# Altium integrated library Analog Devices Temperature Sensors.IntLib: 271 symbols (part 4 of 14)
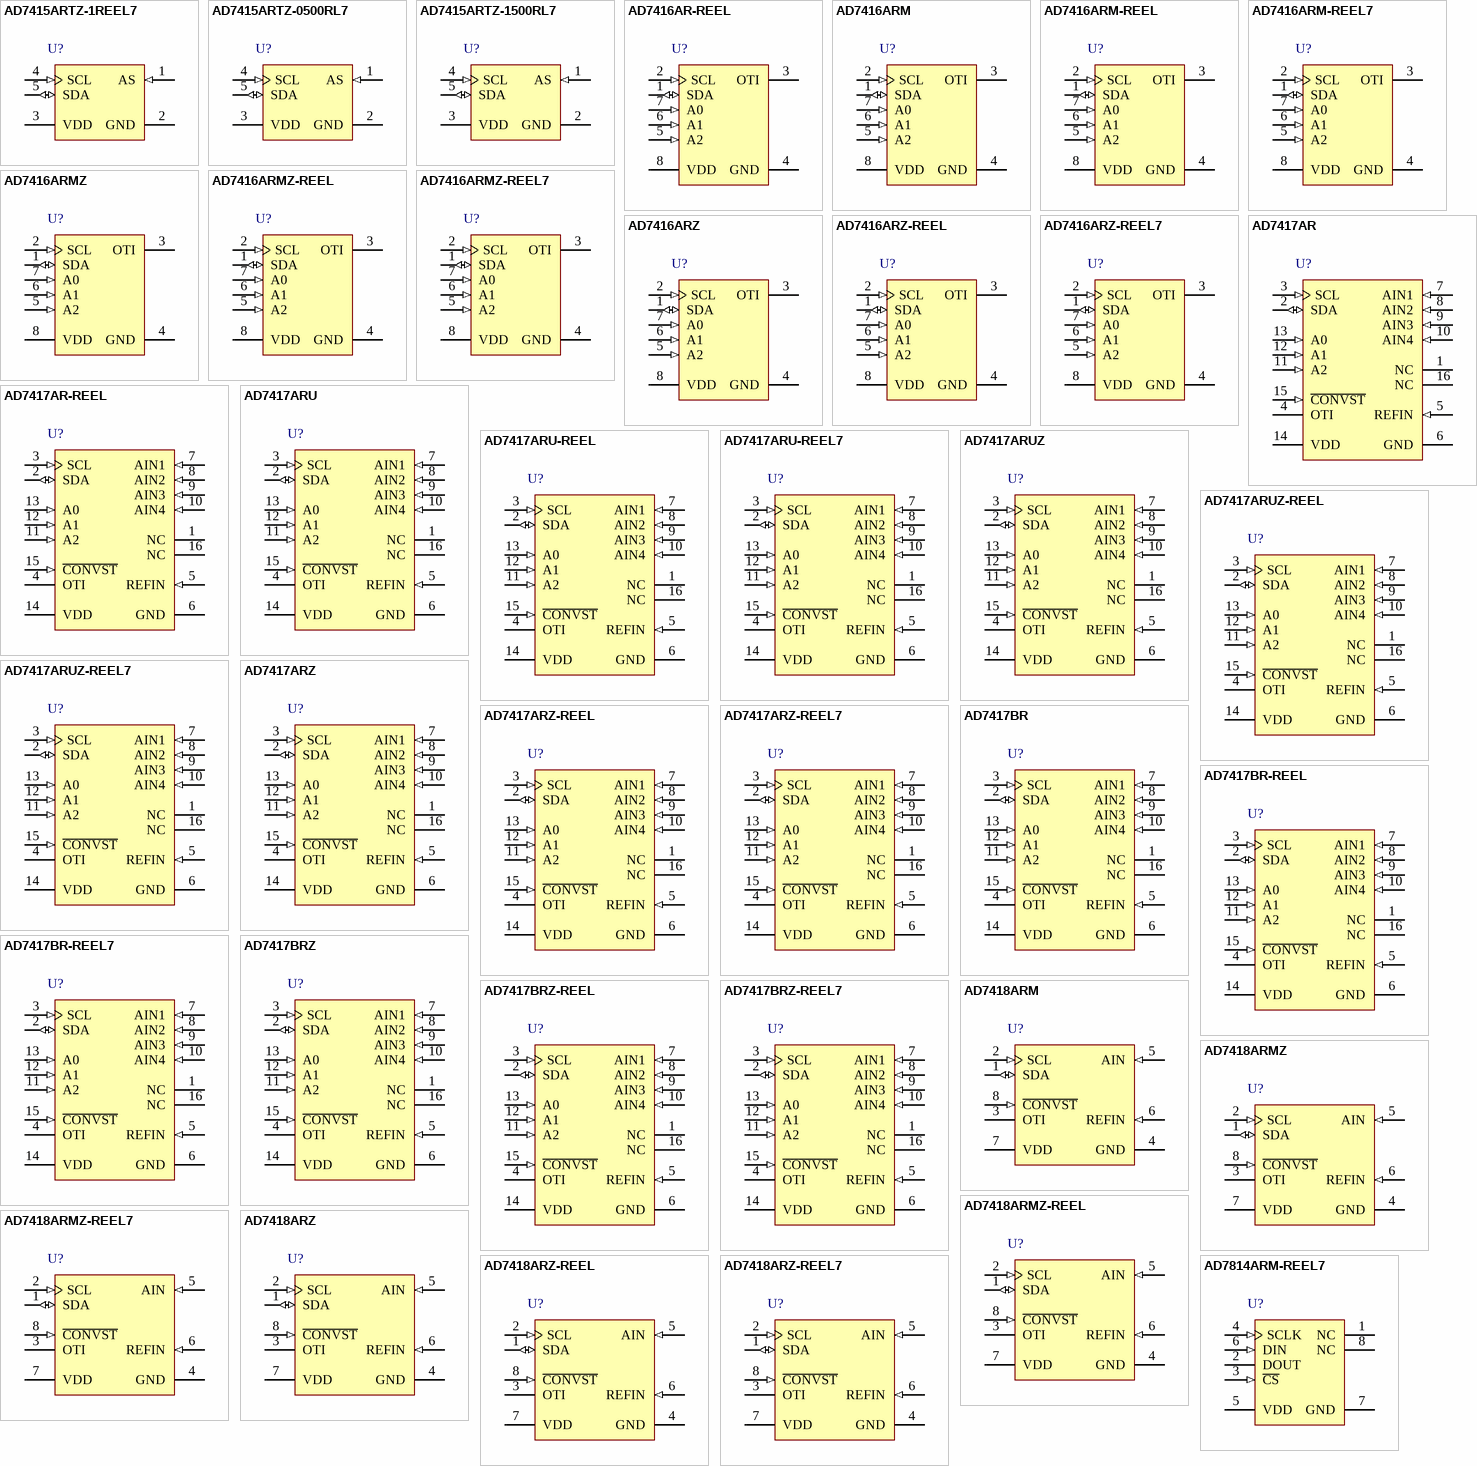
[diagram p10: symbols AD7415ARTZ-1REEL7 to AD7814ARM-REEL7]

## AD7417ARZ-REEL7
designator U?
10-Bit Digital Temperature Sensor and Four Single-Channel ADCs, 2.7 to 5.5 V Supply, Industrial, 16-pin SOIC (R-16), Reel; Manufacturer: Analog Devices; PartNumber: AD7417ARZ-REEL7; #_ADC_channels: 4; DatasheetVersion: Rev. I; PackageVersion: 060606-A, 06/2006; PackageReference: R-16; PackageDescription: 16-Pin Standard Small Outline Package, Body 9.9 x 3.9 mm, Pitch 1.27 mm; Supplier 1: Digi-Key; Supplier Part Number 1: AD7417ARZ-REEL7TR-ND; Supplier 2: Digi-Key; Supplier Part Number 2: AD7417ARZ-REEL7CT-ND; Supplier 3: Digi-Key; Supplier Part Number 3: AD7417ARZ-REEL7DKR-ND; Supplier 4: Newark; Supplier Part Number 4: 12M8812; Supplier 5: Mouser; Supplier Part Number 5: 584-AD7417ARZ-R7; Packing: Reel; Supply Voltage Range: 2.7 to 5.5 V; Mounting Technology: Surface Mount; Code_JEDEC: MS-012-AC; ComponentLink1Description: Manufacturer URL; ComponentLink1URL: http://www.analog.com/en/index.html; ComponentLink2Description: Datasheet; ComponentLink2URL: http://www.analog.com/static/imported-files/data_sheets/AD7416_7417_7418.pdf; ComponentLink3Description: Package Specification; ComponentLink3URL: http://www.analog.com/static/imported-files/packages/PKG_PDF/SOIC_Narrow%20(R)/R_16.pdf; ComponentLink4Description: Product URL; ComponentLink4URL: http://www.analog.com/en/mems-sensors/digital-temperature-sensors/ad7417/products/product.html
footprint ADI-R-16_N (SOIC, 16-Leads, Body 9.9x3.9mm, Pitch 1.27mm, IPC Medium Density)
footprint ADI-R-16_L (SOIC, 16-Leads, Body 9.9x3.9mm, Pitch 1.27mm, IPC High Density)
footprint ADI-R-16_M (SOIC, 16-Leads, Body 9.9x3.9mm, Pitch 1.27mm, IPC Low Density)
pins: 1 NC "No Connection. Do not connect anything to this pin.", 2 SDA (io) "Digital I/O. Serial bus bidirectional data. Push-pull output.", 3 SCL (in) "Digital Input. Serial bus clock.", 4 OTI (oc) "This pin is a logic output. The overtemperature indicator (OTI) is set if the result of a conversion on Channel 0 (temperature sensor) is greater than an 8-bit word in the TOTI setpoint register. The signal is reset at the (See Datasheet)", 5 REFIN (in) "Reference Input. An external 2.5 V reference can be connected to the AD7417 at this pin. To enable the on-chip reference, the REFIN pin should be tied to GND. If an external reference is connected to the AD7417, the internal (See Datasheet)", 6 GND (power) "Ground reference for track-and-hold, comparator and capacitor DAC, and digital circuitry.", 7 AIN1 (in) "Analog Input Channels. The AD7417 has four analog input channels. The input channels are single-ended with respect to GND. The input channels can convert voltage signals in the range of 0 V to VREF. A channel is selected by (See Datasheet)", 8 AIN2 (in) "Analog Input Channels. The AD7417 has four analog input channels. The input channels are single-ended with respect to GND. The input channels can convert voltage signals in the range of 0 V to VREF. A channel is selected by (See Datasheet)", 9 AIN3 (in) "Analog Input Channels. The AD7417 has four analog input channels. The input channels are single-ended with respect to GND. The input channels can convert voltage signals in the range of 0 V to VREF. A channel is selected by (See Datasheet)", 10 AIN4 (in) "Analog Input Channels. The AD7417 has four analog input channels. The input channels are single-ended with respect to GND. The input channels can convert voltage signals in the range of 0 V to VREF. A channel is selected by (See Datasheet)", 11 A2 (in) "Digital Input. This is the highest programmable bit of the serial bus address.", 12 A1 (in) "Digital Input. This is the middle programmable bit of the serial bus address.", 13 A0 (in) "Digital Input. This is the lowest programmable bit of the serial bus address.", 14 VDD (power) "Positive Supply Voltage, 2.7 V to 5.5 V.", 15 ~{CONVST} (in) "Logic Input Signal. Convert start signal. The rising edge of this signal fully powers up the part. The power-up time for the part is 4 µs. If the C\O\N\V\S\T\ pulse is greater than 4 µs, the falling edge of C\O\N\V\S\T\ (See Datasheet)", 16 NC "No Connection. Do not connect anything to this pin."

## AD7417BR
designator U?
10-Bit Digital Temperature Sensor and Four Single-Channel ADCs, 2.7 to 5.5 V Supply, Industrial, 16-pin SOIC (R-16), Tube; Manufacturer: Analog Devices; PartNumber: AD7417BR; #_ADC_channels: 4; DatasheetVersion: Rev. I; PackageVersion: 060606-A, 06/2006; PackageReference: R-16; PackageDescription: 16-Pin Standard Small Outline Package, Body 9.9 x 3.9 mm, Pitch 1.27 mm; Supplier 1: Digi-Key; Supplier Part Number 1: AD7417BR-ND; Supplier 2: Mouser; Supplier Part Number 2: 584-AD7417BR; Packing: Tube; Supply Voltage Range: 2.7 to 5.5 V; Mounting Technology: Surface Mount; Code_JEDEC: MS-012-AC; ComponentLink1Description: Manufacturer URL; ComponentLink1URL: http://www.analog.com/en/index.html; ComponentLink2Description: Datasheet; ComponentLink2URL: http://www.analog.com/static/imported-files/data_sheets/AD7416_7417_7418.pdf; ComponentLink3Description: Package Specification; ComponentLink3URL: http://www.analog.com/static/imported-files/packages/PKG_PDF/SOIC_Narrow%20(R)/R_16.pdf; ComponentLink4Description: Product URL; ComponentLink4URL: http://www.analog.com/en/mems-sensors/digital-temperature-sensors/ad7417/products/product.html
footprint ADI-R-16_N (SOIC, 16-Leads, Body 9.9x3.9mm, Pitch 1.27mm, IPC Medium Density)
footprint ADI-R-16_L (SOIC, 16-Leads, Body 9.9x3.9mm, Pitch 1.27mm, IPC High Density)
footprint ADI-R-16_M (SOIC, 16-Leads, Body 9.9x3.9mm, Pitch 1.27mm, IPC Low Density)
pins: 1 NC "No Connection. Do not connect anything to this pin.", 2 SDA (io) "Digital I/O. Serial bus bidirectional data. Push-pull output.", 3 SCL (in) "Digital Input. Serial bus clock.", 4 OTI (oc) "This pin is a logic output. The overtemperature indicator (OTI) is set if the result of a conversion on Channel 0 (temperature sensor) is greater than an 8-bit word in the TOTI setpoint register. The signal is reset at the (See Datasheet)", 5 REFIN (in) "Reference Input. An external 2.5 V reference can be connected to the AD7417 at this pin. To enable the on-chip reference, the REFIN pin should be tied to GND. If an external reference is connected to the AD7417, the internal (See Datasheet)", 6 GND (power) "Ground reference for track-and-hold, comparator and capacitor DAC, and digital circuitry.", 7 AIN1 (in) "Analog Input Channels. The AD7417 has four analog input channels. The input channels are single-ended with respect to GND. The input channels can convert voltage signals in the range of 0 V to VREF. A channel is selected by (See Datasheet)", 8 AIN2 (in) "Analog Input Channels. The AD7417 has four analog input channels. The input channels are single-ended with respect to GND. The input channels can convert voltage signals in the range of 0 V to VREF. A channel is selected by (See Datasheet)", 9 AIN3 (in) "Analog Input Channels. The AD7417 has four analog input channels. The input channels are single-ended with respect to GND. The input channels can convert voltage signals in the range of 0 V to VREF. A channel is selected by (See Datasheet)", 10 AIN4 (in) "Analog Input Channels. The AD7417 has four analog input channels. The input channels are single-ended with respect to GND. The input channels can convert voltage signals in the range of 0 V to VREF. A channel is selected by (See Datasheet)", 11 A2 (in) "Digital Input. This is the highest programmable bit of the serial bus address.", 12 A1 (in) "Digital Input. This is the middle programmable bit of the serial bus address.", 13 A0 (in) "Digital Input. This is the lowest programmable bit of the serial bus address.", 14 VDD (power) "Positive Supply Voltage, 2.7 V to 5.5 V.", 15 ~{CONVST} (in) "Logic Input Signal. Convert start signal. The rising edge of this signal fully powers up the part. The power-up time for the part is 4 µs. If the C\O\N\V\S\T\ pulse is greater than 4 µs, the falling edge of C\O\N\V\S\T\ (See Datasheet)", 16 NC "No Connection. Do not connect anything to this pin."

## AD7417BR-REEL
designator U?
10-Bit Digital Temperature Sensor and Four Single-Channel ADCs, 2.7 to 5.5 V Supply, Industrial, 16-pin SOIC (R-16), Reel; Manufacturer: Analog Devices; PartNumber: AD7417BR-REEL; #_ADC_channels: 4; DatasheetVersion: Rev. I; PackageVersion: 060606-A, 06/2006; PackageReference: R-16; PackageDescription: 16-Pin Standard Small Outline Package, Body 9.9 x 3.9 mm, Pitch 1.27 mm; Supplier 1: Digi-Key; Supplier Part Number 1: AD7417BR-REEL-ND; Supplier 2: Mouser; Supplier Part Number 2: 584-AD7417BR-R; Packing: Reel; Supply Voltage Range: 2.7 to 5.5 V; Mounting Technology: Surface Mount; Code_JEDEC: MS-012-AC; ComponentLink1Description: Manufacturer URL; ComponentLink1URL: http://www.analog.com/en/index.html; ComponentLink2Description: Datasheet; ComponentLink2URL: http://www.analog.com/static/imported-files/data_sheets/AD7416_7417_7418.pdf; ComponentLink3Description: Package Specification; ComponentLink3URL: http://www.analog.com/static/imported-files/packages/PKG_PDF/SOIC_Narrow%20(R)/R_16.pdf; ComponentLink4Description: Product URL; ComponentLink4URL: http://www.analog.com/en/mems-sensors/digital-temperature-sensors/ad7417/products/product.html
footprint ADI-R-16_N (SOIC, 16-Leads, Body 9.9x3.9mm, Pitch 1.27mm, IPC Medium Density)
footprint ADI-R-16_L (SOIC, 16-Leads, Body 9.9x3.9mm, Pitch 1.27mm, IPC High Density)
footprint ADI-R-16_M (SOIC, 16-Leads, Body 9.9x3.9mm, Pitch 1.27mm, IPC Low Density)
pins: 1 NC "No Connection. Do not connect anything to this pin.", 2 SDA (io) "Digital I/O. Serial bus bidirectional data. Push-pull output.", 3 SCL (in) "Digital Input. Serial bus clock.", 4 OTI (oc) "This pin is a logic output. The overtemperature indicator (OTI) is set if the result of a conversion on Channel 0 (temperature sensor) is greater than an 8-bit word in the TOTI setpoint register. The signal is reset at the (See Datasheet)", 5 REFIN (in) "Reference Input. An external 2.5 V reference can be connected to the AD7417 at this pin. To enable the on-chip reference, the REFIN pin should be tied to GND. If an external reference is connected to the AD7417, the internal (See Datasheet)", 6 GND (power) "Ground reference for track-and-hold, comparator and capacitor DAC, and digital circuitry.", 7 AIN1 (in) "Analog Input Channels. The AD7417 has four analog input channels. The input channels are single-ended with respect to GND. The input channels can convert voltage signals in the range of 0 V to VREF. A channel is selected by (See Datasheet)", 8 AIN2 (in) "Analog Input Channels. The AD7417 has four analog input channels. The input channels are single-ended with respect to GND. The input channels can convert voltage signals in the range of 0 V to VREF. A channel is selected by (See Datasheet)", 9 AIN3 (in) "Analog Input Channels. The AD7417 has four analog input channels. The input channels are single-ended with respect to GND. The input channels can convert voltage signals in the range of 0 V to VREF. A channel is selected by (See Datasheet)", 10 AIN4 (in) "Analog Input Channels. The AD7417 has four analog input channels. The input channels are single-ended with respect to GND. The input channels can convert voltage signals in the range of 0 V to VREF. A channel is selected by (See Datasheet)", 11 A2 (in) "Digital Input. This is the highest programmable bit of the serial bus address.", 12 A1 (in) "Digital Input. This is the middle programmable bit of the serial bus address.", 13 A0 (in) "Digital Input. This is the lowest programmable bit of the serial bus address.", 14 VDD (power) "Positive Supply Voltage, 2.7 V to 5.5 V.", 15 ~{CONVST} (in) "Logic Input Signal. Convert start signal. The rising edge of this signal fully powers up the part. The power-up time for the part is 4 µs. If the C\O\N\V\S\T\ pulse is greater than 4 µs, the falling edge of C\O\N\V\S\T\ (See Datasheet)", 16 NC "No Connection. Do not connect anything to this pin."

## AD7417BR-REEL7
designator U?
10-Bit Digital Temperature Sensor and Four Single-Channel ADCs, 2.7 to 5.5 V Supply, Industrial, 16-pin SOIC (R-16), Reel; Manufacturer: Analog Devices; PartNumber: AD7417BR-REEL7; #_ADC_channels: 4; DatasheetVersion: Rev. I; PackageVersion: 060606-A, 06/2006; PackageReference: R-16; PackageDescription: 16-Pin Standard Small Outline Package, Body 9.9 x 3.9 mm, Pitch 1.27 mm; Supplier 1: Digi-Key; Supplier Part Number 1: AD7417BR-REEL7-ND; Supplier 2: Mouser; Supplier Part Number 2: 584-AD7417BR-R7; Packing: Reel; Supply Voltage Range: 2.7 to 5.5 V; Mounting Technology: Surface Mount; Code_JEDEC: MS-012-AC; ComponentLink1Description: Manufacturer URL; ComponentLink1URL: http://www.analog.com/en/index.html; ComponentLink2Description: Datasheet; ComponentLink2URL: http://www.analog.com/static/imported-files/data_sheets/AD7416_7417_7418.pdf; ComponentLink3Description: Package Specification; ComponentLink3URL: http://www.analog.com/static/imported-files/packages/PKG_PDF/SOIC_Narrow%20(R)/R_16.pdf; ComponentLink4Description: Product URL; ComponentLink4URL: http://www.analog.com/en/mems-sensors/digital-temperature-sensors/ad7417/products/product.html
footprint ADI-R-16_N (SOIC, 16-Leads, Body 9.9x3.9mm, Pitch 1.27mm, IPC Medium Density)
footprint ADI-R-16_L (SOIC, 16-Leads, Body 9.9x3.9mm, Pitch 1.27mm, IPC High Density)
footprint ADI-R-16_M (SOIC, 16-Leads, Body 9.9x3.9mm, Pitch 1.27mm, IPC Low Density)
pins: 1 NC "No Connection. Do not connect anything to this pin.", 2 SDA (io) "Digital I/O. Serial bus bidirectional data. Push-pull output.", 3 SCL (in) "Digital Input. Serial bus clock.", 4 OTI (oc) "This pin is a logic output. The overtemperature indicator (OTI) is set if the result of a conversion on Channel 0 (temperature sensor) is greater than an 8-bit word in the TOTI setpoint register. The signal is reset at the (See Datasheet)", 5 REFIN (in) "Reference Input. An external 2.5 V reference can be connected to the AD7417 at this pin. To enable the on-chip reference, the REFIN pin should be tied to GND. If an external reference is connected to the AD7417, the internal (See Datasheet)", 6 GND (power) "Ground reference for track-and-hold, comparator and capacitor DAC, and digital circuitry.", 7 AIN1 (in) "Analog Input Channels. The AD7417 has four analog input channels. The input channels are single-ended with respect to GND. The input channels can convert voltage signals in the range of 0 V to VREF. A channel is selected by (See Datasheet)", 8 AIN2 (in) "Analog Input Channels. The AD7417 has four analog input channels. The input channels are single-ended with respect to GND. The input channels can convert voltage signals in the range of 0 V to VREF. A channel is selected by (See Datasheet)", 9 AIN3 (in) "Analog Input Channels. The AD7417 has four analog input channels. The input channels are single-ended with respect to GND. The input channels can convert voltage signals in the range of 0 V to VREF. A channel is selected by (See Datasheet)", 10 AIN4 (in) "Analog Input Channels. The AD7417 has four analog input channels. The input channels are single-ended with respect to GND. The input channels can convert voltage signals in the range of 0 V to VREF. A channel is selected by (See Datasheet)", 11 A2 (in) "Digital Input. This is the highest programmable bit of the serial bus address.", 12 A1 (in) "Digital Input. This is the middle programmable bit of the serial bus address.", 13 A0 (in) "Digital Input. This is the lowest programmable bit of the serial bus address.", 14 VDD (power) "Positive Supply Voltage, 2.7 V to 5.5 V.", 15 ~{CONVST} (in) "Logic Input Signal. Convert start signal. The rising edge of this signal fully powers up the part. The power-up time for the part is 4 µs. If the C\O\N\V\S\T\ pulse is greater than 4 µs, the falling edge of C\O\N\V\S\T\ (See Datasheet)", 16 NC "No Connection. Do not connect anything to this pin."

## AD7417BRZ
designator U?
10-Bit Digital Temperature Sensor and Four Single-Channel ADCs, 2.7 to 5.5 V Supply, Industrial, 16-pin SOIC (R-16), Tube; Manufacturer: Analog Devices; PartNumber: AD7417BRZ; #_ADC_channels: 4; DatasheetVersion: Rev. I; PackageVersion: 060606-A, 06/2006; PackageReference: R-16; PackageDescription: 16-Pin Standard Small Outline Package, Body 9.9 x 3.9 mm, Pitch 1.27 mm; Supplier 1: Digi-Key; Supplier Part Number 1: AD7417BRZ-ND; Supplier 2: Farnell; Supplier Part Number 2: 2376956; Supplier 3: Newark; Supplier Part Number 3: 23X6195; Supplier 4: Mouser; Supplier Part Number 4: 584-AD7417BRZ; Packing: Tube; Supply Voltage Range: 2.7 to 5.5 V; Mounting Technology: Surface Mount; Code_JEDEC: MS-012-AC; ComponentLink1Description: Manufacturer URL; ComponentLink1URL: http://www.analog.com/en/index.html; ComponentLink2Description: Datasheet; ComponentLink2URL: http://www.analog.com/static/imported-files/data_sheets/AD7416_7417_7418.pdf; ComponentLink3Description: Package Specification; ComponentLink3URL: http://www.analog.com/static/imported-files/packages/PKG_PDF/SOIC_Narrow%20(R)/R_16.pdf; ComponentLink4Description: Product URL; ComponentLink4URL: http://www.analog.com/en/mems-sensors/digital-temperature-sensors/ad7417/products/product.html
footprint ADI-R-16_N (SOIC, 16-Leads, Body 9.9x3.9mm, Pitch 1.27mm, IPC Medium Density)
footprint ADI-R-16_L (SOIC, 16-Leads, Body 9.9x3.9mm, Pitch 1.27mm, IPC High Density)
footprint ADI-R-16_M (SOIC, 16-Leads, Body 9.9x3.9mm, Pitch 1.27mm, IPC Low Density)
pins: 1 NC "No Connection. Do not connect anything to this pin.", 2 SDA (io) "Digital I/O. Serial bus bidirectional data. Push-pull output.", 3 SCL (in) "Digital Input. Serial bus clock.", 4 OTI (oc) "This pin is a logic output. The overtemperature indicator (OTI) is set if the result of a conversion on Channel 0 (temperature sensor) is greater than an 8-bit word in the TOTI setpoint register. The signal is reset at the (See Datasheet)", 5 REFIN (in) "Reference Input. An external 2.5 V reference can be connected to the AD7417 at this pin. To enable the on-chip reference, the REFIN pin should be tied to GND. If an external reference is connected to the AD7417, the internal (See Datasheet)", 6 GND (power) "Ground reference for track-and-hold, comparator and capacitor DAC, and digital circuitry.", 7 AIN1 (in) "Analog Input Channels. The AD7417 has four analog input channels. The input channels are single-ended with respect to GND. The input channels can convert voltage signals in the range of 0 V to VREF. A channel is selected by (See Datasheet)", 8 AIN2 (in) "Analog Input Channels. The AD7417 has four analog input channels. The input channels are single-ended with respect to GND. The input channels can convert voltage signals in the range of 0 V to VREF. A channel is selected by (See Datasheet)", 9 AIN3 (in) "Analog Input Channels. The AD7417 has four analog input channels. The input channels are single-ended with respect to GND. The input channels can convert voltage signals in the range of 0 V to VREF. A channel is selected by (See Datasheet)", 10 AIN4 (in) "Analog Input Channels. The AD7417 has four analog input channels. The input channels are single-ended with respect to GND. The input channels can convert voltage signals in the range of 0 V to VREF. A channel is selected by (See Datasheet)", 11 A2 (in) "Digital Input. This is the highest programmable bit of the serial bus address.", 12 A1 (in) "Digital Input. This is the middle programmable bit of the serial bus address.", 13 A0 (in) "Digital Input. This is the lowest programmable bit of the serial bus address.", 14 VDD (power) "Positive Supply Voltage, 2.7 V to 5.5 V.", 15 ~{CONVST} (in) "Logic Input Signal. Convert start signal. The rising edge of this signal fully powers up the part. The power-up time for the part is 4 µs. If the C\O\N\V\S\T\ pulse is greater than 4 µs, the falling edge of C\O\N\V\S\T\ (See Datasheet)", 16 NC "No Connection. Do not connect anything to this pin."

## AD7417BRZ-REEL
designator U?
10-Bit Digital Temperature Sensor and Four Single-Channel ADCs, 2.7 to 5.5 V Supply, Industrial, 16-pin SOIC (R-16), Reel; Manufacturer: Analog Devices; PartNumber: AD7417BRZ-REEL; #_ADC_channels: 4; DatasheetVersion: Rev. I; PackageVersion: 060606-A, 06/2006; PackageReference: R-16; PackageDescription: 16-Pin Standard Small Outline Package, Body 9.9 x 3.9 mm, Pitch 1.27 mm; Supplier 1: Digi-Key; Supplier Part Number 1: AD7417BRZ-REEL-ND; Supplier 2: Mouser; Supplier Part Number 2: 584-AD7417BRZ-R; Packing: Reel; Supply Voltage Range: 2.7 to 5.5 V; Mounting Technology: Surface Mount; Code_JEDEC: MS-012-AC; ComponentLink1Description: Manufacturer URL; ComponentLink1URL: http://www.analog.com/en/index.html; ComponentLink2Description: Datasheet; ComponentLink2URL: http://www.analog.com/static/imported-files/data_sheets/AD7416_7417_7418.pdf; ComponentLink3Description: Package Specification; ComponentLink3URL: http://www.analog.com/static/imported-files/packages/PKG_PDF/SOIC_Narrow%20(R)/R_16.pdf; ComponentLink4Description: Product URL; ComponentLink4URL: http://www.analog.com/en/mems-sensors/digital-temperature-sensors/ad7417/products/product.html
footprint ADI-R-16_N (SOIC, 16-Leads, Body 9.9x3.9mm, Pitch 1.27mm, IPC Medium Density)
footprint ADI-R-16_L (SOIC, 16-Leads, Body 9.9x3.9mm, Pitch 1.27mm, IPC High Density)
footprint ADI-R-16_M (SOIC, 16-Leads, Body 9.9x3.9mm, Pitch 1.27mm, IPC Low Density)
pins: 1 NC "No Connection. Do not connect anything to this pin.", 2 SDA (io) "Digital I/O. Serial bus bidirectional data. Push-pull output.", 3 SCL (in) "Digital Input. Serial bus clock.", 4 OTI (oc) "This pin is a logic output. The overtemperature indicator (OTI) is set if the result of a conversion on Channel 0 (temperature sensor) is greater than an 8-bit word in the TOTI setpoint register. The signal is reset at the (See Datasheet)", 5 REFIN (in) "Reference Input. An external 2.5 V reference can be connected to the AD7417 at this pin. To enable the on-chip reference, the REFIN pin should be tied to GND. If an external reference is connected to the AD7417, the internal (See Datasheet)", 6 GND (power) "Ground reference for track-and-hold, comparator and capacitor DAC, and digital circuitry.", 7 AIN1 (in) "Analog Input Channels. The AD7417 has four analog input channels. The input channels are single-ended with respect to GND. The input channels can convert voltage signals in the range of 0 V to VREF. A channel is selected by (See Datasheet)", 8 AIN2 (in) "Analog Input Channels. The AD7417 has four analog input channels. The input channels are single-ended with respect to GND. The input channels can convert voltage signals in the range of 0 V to VREF. A channel is selected by (See Datasheet)", 9 AIN3 (in) "Analog Input Channels. The AD7417 has four analog input channels. The input channels are single-ended with respect to GND. The input channels can convert voltage signals in the range of 0 V to VREF. A channel is selected by (See Datasheet)", 10 AIN4 (in) "Analog Input Channels. The AD7417 has four analog input channels. The input channels are single-ended with respect to GND. The input channels can convert voltage signals in the range of 0 V to VREF. A channel is selected by (See Datasheet)", 11 A2 (in) "Digital Input. This is the highest programmable bit of the serial bus address.", 12 A1 (in) "Digital Input. This is the middle programmable bit of the serial bus address.", 13 A0 (in) "Digital Input. This is the lowest programmable bit of the serial bus address.", 14 VDD (power) "Positive Supply Voltage, 2.7 V to 5.5 V.", 15 ~{CONVST} (in) "Logic Input Signal. Convert start signal. The rising edge of this signal fully powers up the part. The power-up time for the part is 4 µs. If the C\O\N\V\S\T\ pulse is greater than 4 µs, the falling edge of C\O\N\V\S\T\ (See Datasheet)", 16 NC "No Connection. Do not connect anything to this pin."

## AD7417BRZ-REEL7
designator U?
10-Bit Digital Temperature Sensor and Four Channel ADCs, 2.7 to 5.5 V Supply, Industrial, 16-pin SOIC (R-16), Reel; Manufacturer: Analog Devices; PartNumber: AD7417BRZ-REEL7; #_ADC_channels: 4; DatasheetVersion: Rev. I; PackageVersion: 060606-A, 06/2006; PackageReference: R-16; PackageDescription: 16-Pin Standard Small Outline Package, Body 9.9 x 3.9 mm, Pitch 1.27 mm; Supplier 1: Digi-Key; Supplier Part Number 1: AD7417BRZ-REEL7-ND; Supplier 2: Mouser; Supplier Part Number 2: 584-AD7417BRZ-R7; Packing: Reel; Supply Voltage Range: 2.7 to 5.5 V; Mounting Technology: Surface Mount; Code_JEDEC: MS-012-AC; ComponentLink1Description: Manufacturer URL; ComponentLink1URL: http://www.analog.com/en/index.html; ComponentLink2Description: Datasheet; ComponentLink2URL: http://www.analog.com/static/imported-files/data_sheets/AD7416_7417_7418.pdf; ComponentLink3Description: Package Specification; ComponentLink3URL: http://www.analog.com/static/imported-files/packages/PKG_PDF/SOIC_Narrow%20(R)/R_16.pdf; ComponentLink4Description: Product URL; ComponentLink4URL: http://www.analog.com/en/mems-sensors/digital-temperature-sensors/ad7417/products/product.html
footprint ADI-R-16_N (SOIC, 16-Leads, Body 9.9x3.9mm, Pitch 1.27mm, IPC Medium Density)
footprint ADI-R-16_L (SOIC, 16-Leads, Body 9.9x3.9mm, Pitch 1.27mm, IPC High Density)
footprint ADI-R-16_M (SOIC, 16-Leads, Body 9.9x3.9mm, Pitch 1.27mm, IPC Low Density)
pins: 1 NC "No Connection. Do not connect anything to this pin.", 2 SDA (io) "Digital I/O. Serial bus bidirectional data. Push-pull output.", 3 SCL (in) "Digital Input. Serial bus clock.", 4 OTI (oc) "This pin is a logic output. The overtemperature indicator (OTI) is set if the result of a conversion on Channel 0 (temperature sensor) is greater than an 8-bit word in the TOTI setpoint register. The signal is reset at the (See Datasheet)", 5 REFIN (in) "Reference Input. An external 2.5 V reference can be connected to the AD7417 at this pin. To enable the on-chip reference, the REFIN pin should be tied to GND. If an external reference is connected to the AD7417, the internal (See Datasheet)", 6 GND (power) "Ground reference for track-and-hold, comparator and capacitor DAC, and digital circuitry.", 7 AIN1 (in) "Analog Input Channels. The AD7417 has four analog input channels. The input channels are single-ended with respect to GND. The input channels can convert voltage signals in the range of 0 V to VREF. A channel is selected by (See Datasheet)", 8 AIN2 (in) "Analog Input Channels. The AD7417 has four analog input channels. The input channels are single-ended with respect to GND. The input channels can convert voltage signals in the range of 0 V to VREF. A channel is selected by (See Datasheet)", 9 AIN3 (in) "Analog Input Channels. The AD7417 has four analog input channels. The input channels are single-ended with respect to GND. The input channels can convert voltage signals in the range of 0 V to VREF. A channel is selected by (See Datasheet)", 10 AIN4 (in) "Analog Input Channels. The AD7417 has four analog input channels. The input channels are single-ended with respect to GND. The input channels can convert voltage signals in the range of 0 V to VREF. A channel is selected by (See Datasheet)", 11 A2 (in) "Digital Input. This is the highest programmable bit of the serial bus address.", 12 A1 (in) "Digital Input. This is the middle programmable bit of the serial bus address.", 13 A0 (in) "Digital Input. This is the lowest programmable bit of the serial bus address.", 14 VDD (power) "Positive Supply Voltage, 2.7 V to 5.5 V.", 15 ~{CONVST} (in) "Logic Input Signal. Convert start signal. The rising edge of this signal fully powers up the part. The power-up time for the part is 4 µs. If the C\O\N\V\S\T\ pulse is greater than 4 µs, the falling edge of C\O\N\V\S\T\ (See Datasheet)", 16 NC "No Connection. Do not connect anything to this pin."

## AD7418ARM
designator U?
10-Bit Digital Temperature Sensor and Single-Channel ADC, 2.7 to 5.5 V Supply, Industrial, 8-pin SOP (RM-8), Tube; Manufacturer: Analog Devices; PartNumber: AD7418ARM; #_ADC_channels: 1; DatasheetVersion: Rev. I; PackageVersion: 08/2005; PackageReference: RM-8; PackageDescription: 8-Pin Mini Small Outline Package, Body 3 x 3 mm, Pitch 0.65 mm; Supplier 1: Digi-Key; Supplier Part Number 1: AD7418ARM-ND; Supplier 2: Mouser; Supplier Part Number 2: 584-AD7418ARM; Packing: Tube; Supply Voltage Range: 2.7 to 5.5 V; Mounting Technology: Surface Mount; Code_JEDEC: MO-187-AA; ComponentLink1Description: Manufacturer URL; ComponentLink1URL: http://www.analog.com/en/index.html; ComponentLink2Description: Datasheet; ComponentLink2URL: http://www.analog.com/static/imported-files/data_sheets/AD7416_7417_7418.pdf; ComponentLink3Description: Package Specification; ComponentLink3URL: http://www.analog.com/static/imported-files/packages/PKG_PDF/MSOP%28RM%29/RM_8.pdf; ComponentLink4Description: Product URL; ComponentLink4URL: http://www.analog.com/en/mems-sensors/digital-temperature-sensors/ad7418/products/product.html
footprint ADI-RM-8_N (SOP, 8-Leads, Body 3x3mm, Pitch 0.65mm, IPC Medium Density)
footprint ADI-RM-8_L (SOP, 8-Leads, Body 3x3mm, Pitch 0.65mm, IPC High Density)
footprint ADI-RM-8_M (SOP, 8-Leads, Body 3x3mm, Pitch 0.65mm, IPC Low Density)
pins: 1 SDA (io) "Digital I/O. Serial bus bidirectional data. Push-pull output.", 2 SCL (in) "Digital Input. Serial bus clock.", 3 OTI (oc) "This is a logic output. The OTI is set if the result of a conversion on Channel 0 (temperature sensor) is greater than an 8-bit word in the TOTI setpoint register. The signal is reset at the end of a serial read operation. (See Datasheet)", 4 GND (power) "Ground reference for track-and-hold, comparator and capacitor DAC, and digital circuitry.", 5 AIN (in) "Analog Input Channel. The input channel is single-ended with respect to GND. The input channel can convert voltage signals in the range of 0 V to VREF. The analog input channel is selected by writing to the configuration (See Datasheet)", 6 REFIN (in) "Reference Input. An external 2.5 V reference can be connected to the AD7418 at this pin. To enable the on-chip reference, the REFIN pin should be tied to GND. If an external reference is connected to the AD7418, the internal (See Datasheet)", 7 VDD (power) "Positive Supply Voltage, 2.7 V to 5.5 V.", 8 ~{CONVST} (in) "Logic Input Signal. Convert start signal. The rising edge of this signal fully powers up the part. The power-up time for the part is 4 µs. If the C\O\N\V\S\T\ pulse is greater than 4 µs, the falling edge of C\O\N\V\S\T\ (See Datasheet)"

## AD7418ARMZ
designator U?
10-Bit Digital Temperature Sensor and Single-Channel ADC, 2.7 to 5.5 V Supply, Industrial, 8-pin SOP (RM-8), Tube; Manufacturer: Analog Devices; PartNumber: AD7418ARMZ; #_ADC_channels: 1; DatasheetVersion: Rev. I; PackageVersion: 08/2005; PackageReference: RM-8; PackageDescription: 8-Pin Mini Small Outline Package, Body 3 x 3 mm, Pitch 0.65 mm; Supplier 1: Digi-Key; Supplier Part Number 1: AD7418ARMZ-ND; Supplier 2: Farnell; Supplier Part Number 2: 2377021; Supplier 3: Newark; Supplier Part Number 3: 59K4799; Supplier 4: Mouser; Supplier Part Number 4: 584-AD7418ARMZ; Packing: Tube; Supply Voltage Range: 2.7 to 5.5 V; Mounting Technology: Surface Mount; Code_JEDEC: MO-187-AA; ComponentLink1Description: Manufacturer URL; ComponentLink1URL: http://www.analog.com/en/index.html; ComponentLink2Description: Datasheet; ComponentLink2URL: http://www.analog.com/static/imported-files/data_sheets/AD7416_7417_7418.pdf; ComponentLink3Description: Package Specification; ComponentLink3URL: http://www.analog.com/static/imported-files/packages/PKG_PDF/MSOP%28RM%29/RM_8.pdf; ComponentLink4Description: Product URL; ComponentLink4URL: http://www.analog.com/en/mems-sensors/digital-temperature-sensors/ad7418/products/product.html
footprint ADI-RM-8_N (SOP, 8-Leads, Body 3x3mm, Pitch 0.65mm, IPC Medium Density)
footprint ADI-RM-8_L (SOP, 8-Leads, Body 3x3mm, Pitch 0.65mm, IPC High Density)
footprint ADI-RM-8_M (SOP, 8-Leads, Body 3x3mm, Pitch 0.65mm, IPC Low Density)
pins: 1 SDA (io) "Digital I/O. Serial bus bidirectional data. Push-pull output.", 2 SCL (in) "Digital Input. Serial bus clock.", 3 OTI (oc) "This is a logic output. The OTI is set if the result of a conversion on Channel 0 (temperature sensor) is greater than an 8-bit word in the TOTI setpoint register. The signal is reset at the end of a serial read operation. (See Datasheet)", 4 GND (power) "Ground reference for track-and-hold, comparator and capacitor DAC, and digital circuitry.", 5 AIN (in) "Analog Input Channel. The input channel is single-ended with respect to GND. The input channel can convert voltage signals in the range of 0 V to VREF. The analog input channel is selected by writing to the configuration (See Datasheet)", 6 REFIN (in) "Reference Input. An external 2.5 V reference can be connected to the AD7418 at this pin. To enable the on-chip reference, the REFIN pin should be tied to GND. If an external reference is connected to the AD7418, the internal (See Datasheet)", 7 VDD (power) "Positive Supply Voltage, 2.7 V to 5.5 V.", 8 ~{CONVST} (in) "Logic Input Signal. Convert start signal. The rising edge of this signal fully powers up the part. The power-up time for the part is 4 µs. If the C\O\N\V\S\T\ pulse is greater than 4 µs, the falling edge of C\O\N\V\S\T\ (See Datasheet)"

## AD7418ARMZ-REEL
designator U?
10-Bit Digital Temperature Sensor and Single-Channel ADC, 2.7 to 5.5 V Supply, Industrial, 8-pin SOP (RM-8), Reel; Manufacturer: Analog Devices; PartNumber: AD7418ARMZ-REEL; #_ADC_channels: 1; DatasheetVersion: Rev. I; PackageVersion: 08/2005; PackageReference: RM-8; PackageDescription: 8-Pin Mini Small Outline Package, Body 3 x 3 mm, Pitch 0.65 mm; Supplier 1: Digi-Key; Supplier Part Number 1: AD7418ARMZ-REEL-ND; Supplier 2: Mouser; Supplier Part Number 2: 584-AD7418ARMZ-R; Packing: Reel; Supply Voltage Range: 2.7 to 5.5 V; Mounting Technology: Surface Mount; Code_JEDEC: MO-187-AA; ComponentLink1Description: Manufacturer URL; ComponentLink1URL: http://www.analog.com/en/index.html; ComponentLink2Description: Datasheet; ComponentLink2URL: http://www.analog.com/static/imported-files/data_sheets/AD7416_7417_7418.pdf; ComponentLink3Description: Package Specification; ComponentLink3URL: http://www.analog.com/static/imported-files/packages/PKG_PDF/MSOP%28RM%29/RM_8.pdf; ComponentLink4Description: Product URL; ComponentLink4URL: http://www.analog.com/en/mems-sensors/digital-temperature-sensors/ad7418/products/product.html
footprint ADI-RM-8_N (SOP, 8-Leads, Body 3x3mm, Pitch 0.65mm, IPC Medium Density)
footprint ADI-RM-8_L (SOP, 8-Leads, Body 3x3mm, Pitch 0.65mm, IPC High Density)
footprint ADI-RM-8_M (SOP, 8-Leads, Body 3x3mm, Pitch 0.65mm, IPC Low Density)
pins: 1 SDA (io) "Digital I/O. Serial bus bidirectional data. Push-pull output.", 2 SCL (in) "Digital Input. Serial bus clock.", 3 OTI (oc) "This is a logic output. The OTI is set if the result of a conversion on Channel 0 (temperature sensor) is greater than an 8-bit word in the TOTI setpoint register. The signal is reset at the end of a serial read operation. (See Datasheet)", 4 GND (power) "Ground reference for track-and-hold, comparator and capacitor DAC, and digital circuitry.", 5 AIN (in) "Analog Input Channel. The input channel is single-ended with respect to GND. The input channel can convert voltage signals in the range of 0 V to VREF. The analog input channel is selected by writing to the configuration (See Datasheet)", 6 REFIN (in) "Reference Input. An external 2.5 V reference can be connected to the AD7418 at this pin. To enable the on-chip reference, the REFIN pin should be tied to GND. If an external reference is connected to the AD7418, the internal (See Datasheet)", 7 VDD (power) "Positive Supply Voltage, 2.7 V to 5.5 V.", 8 ~{CONVST} (in) "Logic Input Signal. Convert start signal. The rising edge of this signal fully powers up the part. The power-up time for the part is 4 µs. If the C\O\N\V\S\T\ pulse is greater than 4 µs, the falling edge of C\O\N\V\S\T\ (See Datasheet)"

## AD7418ARMZ-REEL7
designator U?
10-Bit Digital Temperature Sensor and Single-Channel ADC, 2.7 to 5.5 V Supply, Automotive, 8-pin SOIC (R-8), Reel; Manufacturer: Analog Devices; PartNumber: AD7418ARMZ-REEL7; #_ADC_channels: 1; DatasheetVersion: Rev. I; PackageVersion: 08/2005; PackageReference: RM-8; PackageDescription: 8-Pin Mini Small Outline Package, Body 3 x 3 mm, Pitch 0.65 mm; Supplier 1: Digi-Key; Supplier Part Number 1: AD7418ARMZ-REEL7-ND; Supplier 2: Mouser; Supplier Part Number 2: 584-AD7418ARMZ-R7; Packing: Reel; Supply Voltage Range: 2.7 to 5.5 V; Mounting Technology: Surface Mount; Code_JEDEC: MO-187-AA; ComponentLink1Description: Manufacturer URL; ComponentLink1URL: http://www.analog.com/en/index.html; ComponentLink2Description: Datasheet; ComponentLink2URL: http://www.analog.com/static/imported-files/data_sheets/AD7416_7417_7418.pdf; ComponentLink3Description: Package Specification; ComponentLink3URL: http://www.analog.com/static/imported-files/packages/PKG_PDF/MSOP%28RM%29/RM_8.pdf; ComponentLink4Description: Product URL; ComponentLink4URL: http://www.analog.com/en/mems-sensors/digital-temperature-sensors/ad7418/products/product.html
footprint ADI-RM-8_N (SOP, 8-Leads, Body 3x3mm, Pitch 0.65mm, IPC Medium Density)
footprint ADI-RM-8_L (SOP, 8-Leads, Body 3x3mm, Pitch 0.65mm, IPC High Density)
footprint ADI-RM-8_M (SOP, 8-Leads, Body 3x3mm, Pitch 0.65mm, IPC Low Density)
pins: 1 SDA (io) "Digital I/O. Serial bus bidirectional data. Push-pull output.", 2 SCL (in) "Digital Input. Serial bus clock.", 3 OTI (oc) "This is a logic output. The OTI is set if the result of a conversion on Channel 0 (temperature sensor) is greater than an 8-bit word in the TOTI setpoint register. The signal is reset at the end of a serial read operation. (See Datasheet)", 4 GND (power) "Ground reference for track-and-hold, comparator and capacitor DAC, and digital circuitry.", 5 AIN (in) "Analog Input Channel. The input channel is single-ended with respect to GND. The input channel can convert voltage signals in the range of 0 V to VREF. The analog input channel is selected by writing to the configuration (See Datasheet)", 6 REFIN (in) "Reference Input. An external 2.5 V reference can be connected to the AD7418 at this pin. To enable the on-chip reference, the REFIN pin should be tied to GND. If an external reference is connected to the AD7418, the internal (See Datasheet)", 7 VDD (power) "Positive Supply Voltage, 2.7 V to 5.5 V.", 8 ~{CONVST} (in) "Logic Input Signal. Convert start signal. The rising edge of this signal fully powers up the part. The power-up time for the part is 4 µs. If the C\O\N\V\S\T\ pulse is greater than 4 µs, the falling edge of C\O\N\V\S\T\ (See Datasheet)"

## AD7418ARZ
designator U?
10-Bit Digital Temperature Sensor and Single-Channel ADC, 2.7 to 5.5 V Supply, Commercial, 8-pin SOIC (R-8), Tube; Manufacturer: Analog Devices; PartNumber: AD7418ARZ; #_ADC_channels: 1; DatasheetVersion: Rev. I; PackageVersion: 060506-A, 06/2006; PackageReference: R-8; PackageDescription: 8-Pin Standard Small Outline Package, Body 4.9 x 3.9 mm, Pitch 1.27 mm; Supplier 1: Digi-Key; Supplier Part Number 1: AD7418ARZ-ND; Supplier 2: Farnell; Supplier Part Number 2: 9603832; Supplier 3: Newark; Supplier Part Number 3: 31M4255; Supplier 4: Mouser; Supplier Part Number 4: 584-AD7418ARZ; Packing: Tube; Supply Voltage Range: 2.7 to 5.5 V; Mounting Technology: Surface Mount; Code_JEDEC: MS-012-AA; ComponentLink1Description: Manufacturer URL; ComponentLink1URL: http://www.analog.com/en/index.html; ComponentLink2Description: Datasheet; ComponentLink2URL: http://www.analog.com/static/imported-files/data_sheets/AD7416_7417_7418.pdf; ComponentLink3Description: Package Specification; ComponentLink3URL: http://www.analog.com/static/imported-files/packages/PKG_PDF/SOIC_Narrow%20(R)/R_8.pdf; ComponentLink4Description: Product URL; ComponentLink4URL: http://www.analog.com/en/mems-sensors/digital-temperature-sensors/ad7418/products/product.html
footprint ADI-R-8_N (SOIC, 8-Leads, Body 4.9x3.9mm, Pitch 1.27mm, IPC Medium Density)
footprint ADI-R-8_L (SOIC, 8-Leads, Body 4.9x3.9mm, Pitch 1.27mm, IPC High Density)
footprint ADI-R-8_M (SOIC, 8-Leads, Body 4.9x3.9mm, Pitch 1.27mm, IPC Low Density)
pins: 1 SDA (io) "Digital I/O. Serial bus bidirectional data. Push-pull output.", 2 SCL (in) "Digital Input. Serial bus clock.", 3 OTI (oc) "This is a logic output. The OTI is set if the result of a conversion on Channel 0 (temperature sensor) is greater than an 8-bit word in the TOTI setpoint register. The signal is reset at the end of a serial read operation. (See Datasheet)", 4 GND (power) "Ground reference for track-and-hold, comparator and capacitor DAC, and digital circuitry.", 5 AIN (in) "Analog Input Channel. The input channel is single-ended with respect to GND. The input channel can convert voltage signals in the range of 0 V to VREF. The analog input channel is selected by writing to the configuration (See Datasheet)", 6 REFIN (in) "Reference Input. An external 2.5 V reference can be connected to the AD7418 at this pin. To enable the on-chip reference, the REFIN pin should be tied to GND. If an external reference is connected to the AD7418, the internal (See Datasheet)", 7 VDD (power) "Positive Supply Voltage, 2.7 V to 5.5 V.", 8 ~{CONVST} (in) "Logic Input Signal. Convert start signal. The rising edge of this signal fully powers up the part. The power-up time for the part is 4 µs. If the C\O\N\V\S\T\ pulse is greater than 4 µs, the falling edge of C\O\N\V\S\T\ (See Datasheet)"

## AD7418ARZ-REEL
designator U?
10-Bit Digital Temperature Sensor and Single-Channel ADC, 2.7 to 5.5 V Supply, Commercial, 8-pin SOIC (R-8), Reel; Manufacturer: Analog Devices; PartNumber: AD7418ARZ-REEL; #_ADC_channels: 1; DatasheetVersion: Rev. I; PackageVersion: 060506-A, 06/2006; PackageReference: R-8; PackageDescription: 8-Pin Standard Small Outline Package, Body 4.9 x 3.9 mm, Pitch 1.27 mm; Supplier 1: Digi-Key; Supplier Part Number 1: AD7418ARZ-REEL-ND; Supplier 2: Mouser; Supplier Part Number 2: 584-AD7418ARZ-R; Packing: Reel; Supply Voltage Range: 2.7 to 5.5 V; Mounting Technology: Surface Mount; Code_JEDEC: MS-012-AA; ComponentLink1Description: Manufacturer URL; ComponentLink1URL: http://www.analog.com/en/index.html; ComponentLink2Description: Datasheet; ComponentLink2URL: http://www.analog.com/static/imported-files/data_sheets/AD7416_7417_7418.pdf; ComponentLink3Description: Package Specification; ComponentLink3URL: http://www.analog.com/static/imported-files/packages/PKG_PDF/SOIC_Narrow%20(R)/R_8.pdf; ComponentLink4Description: Product URL; ComponentLink4URL: http://www.analog.com/en/mems-sensors/digital-temperature-sensors/ad7418/products/product.html
footprint ADI-R-8_N (SOIC, 8-Leads, Body 4.9x3.9mm, Pitch 1.27mm, IPC Medium Density)
footprint ADI-R-8_L (SOIC, 8-Leads, Body 4.9x3.9mm, Pitch 1.27mm, IPC High Density)
footprint ADI-R-8_M (SOIC, 8-Leads, Body 4.9x3.9mm, Pitch 1.27mm, IPC Low Density)
pins: 1 SDA (io) "Digital I/O. Serial bus bidirectional data. Push-pull output.", 2 SCL (in) "Digital Input. Serial bus clock.", 3 OTI (oc) "This is a logic output. The OTI is set if the result of a conversion on Channel 0 (temperature sensor) is greater than an 8-bit word in the TOTI setpoint register. The signal is reset at the end of a serial read operation. (See Datasheet)", 4 GND (power) "Ground reference for track-and-hold, comparator and capacitor DAC, and digital circuitry.", 5 AIN (in) "Analog Input Channel. The input channel is single-ended with respect to GND. The input channel can convert voltage signals in the range of 0 V to VREF. The analog input channel is selected by writing to the configuration (See Datasheet)", 6 REFIN (in) "Reference Input. An external 2.5 V reference can be connected to the AD7418 at this pin. To enable the on-chip reference, the REFIN pin should be tied to GND. If an external reference is connected to the AD7418, the internal (See Datasheet)", 7 VDD (power) "Positive Supply Voltage, 2.7 V to 5.5 V.", 8 ~{CONVST} (in) "Logic Input Signal. Convert start signal. The rising edge of this signal fully powers up the part. The power-up time for the part is 4 µs. If the C\O\N\V\S\T\ pulse is greater than 4 µs, the falling edge of C\O\N\V\S\T\ (See Datasheet)"

## AD7418ARZ-REEL7
designator U?
10-Bit Digital Temperature Sensor and Single-Channel ADC, 2.7 to 5.5 V Supply, Commercial, 8-pin SOIC (R-8), Reel; Manufacturer: Analog Devices; PartNumber: AD7418ARZ-REEL7; #_ADC_channels: 1; DatasheetVersion: Rev. I; PackageVersion: 060506-A, 06/2006; PackageReference: R-8; PackageDescription: 8-Pin Standard Small Outline Package, Body 4.9 x 3.9 mm, Pitch 1.27 mm; Supplier 1: Digi-Key; Supplier Part Number 1: AD7418ARZ-REEL7-ND; Supplier 2: Mouser; Supplier Part Number 2: 584-AD7418ARZ-R7; Packing: Reel; Supply Voltage Range: 2.7 to 5.5 V; Mounting Technology: Surface Mount; Code_JEDEC: MS-012-AA; ComponentLink1Description: Manufacturer URL; ComponentLink1URL: http://www.analog.com/en/index.html; ComponentLink2Description: Datasheet; ComponentLink2URL: http://www.analog.com/static/imported-files/data_sheets/AD7416_7417_7418.pdf; ComponentLink3Description: Package Specification; ComponentLink3URL: http://www.analog.com/static/imported-files/packages/PKG_PDF/SOIC_Narrow%20(R)/R_8.pdf; ComponentLink4Description: Product URL; ComponentLink4URL: http://www.analog.com/en/mems-sensors/digital-temperature-sensors/ad7418/products/product.html
footprint ADI-R-8_N (SOIC, 8-Leads, Body 4.9x3.9mm, Pitch 1.27mm, IPC Medium Density)
footprint ADI-R-8_L (SOIC, 8-Leads, Body 4.9x3.9mm, Pitch 1.27mm, IPC High Density)
footprint ADI-R-8_M (SOIC, 8-Leads, Body 4.9x3.9mm, Pitch 1.27mm, IPC Low Density)
pins: 1 SDA (io) "Digital I/O. Serial bus bidirectional data. Push-pull output.", 2 SCL (in) "Digital Input. Serial bus clock.", 3 OTI (oc) "This is a logic output. The OTI is set if the result of a conversion on Channel 0 (temperature sensor) is greater than an 8-bit word in the TOTI setpoint register. The signal is reset at the end of a serial read operation. (See Datasheet)", 4 GND (power) "Ground reference for track-and-hold, comparator and capacitor DAC, and digital circuitry.", 5 AIN (in) "Analog Input Channel. The input channel is single-ended with respect to GND. The input channel can convert voltage signals in the range of 0 V to VREF. The analog input channel is selected by writing to the configuration (See Datasheet)", 6 REFIN (in) "Reference Input. An external 2.5 V reference can be connected to the AD7418 at this pin. To enable the on-chip reference, the REFIN pin should be tied to GND. If an external reference is connected to the AD7418, the internal (See Datasheet)", 7 VDD (power) "Positive Supply Voltage, 2.7 V to 5.5 V.", 8 ~{CONVST} (in) "Logic Input Signal. Convert start signal. The rising edge of this signal fully powers up the part. The power-up time for the part is 4 µs. If the C\O\N\V\S\T\ pulse is greater than 4 µs, the falling edge of C\O\N\V\S\T\ (See Datasheet)"

## AD7814ARM-REEL7
designator U?
10-Bit Digital Temperature Sensor, 2.7 to 5.5 V Supply, Industrial, 8-pin SOP (RM-8), Reel; Manufacturer: Analog Devices; PartNumber: AD7814ARM-REEL7; DatasheetVersion: Rev. E; PackageVersion: 08/2005; PackageReference: RM-8; PackageDescription: 8-Pin Mini Small Outline Package, Body 3 x 3 mm, Pitch 0.65 mm; Supplier 1: Digi-Key; Supplier Part Number 1: AD7814ARM-REEL7TR-ND; Supplier 2: Digi-Key; Supplier Part Number 2: AD7814ARM-REEL7CT-ND; Supplier 3: Digi-Key; Supplier Part Number 3: AD7814ARM-REEL7DKR-ND; Supplier 4: Newark; Supplier Part Number 4: 98B7304; Supplier 5: Mouser; Supplier Part Number 5: 584-AD7814ARM-R7; Packing: Reel; Supply Voltage Range: 2.7 to 5.5 V; Mounting Technology: Surface Mount; Code_JEDEC: MO-187-AA; ComponentLink1Description: Manufacturer URL; ComponentLink1URL: http://www.analog.com/en/index.html; ComponentLink2Description: Datasheet; ComponentLink2URL: http://www.analog.com/static/imported-files/data_sheets/AD7814.pdf; ComponentLink3Description: Package Specification; ComponentLink3URL: http://www.analog.com/static/imported-files/packages/PKG_PDF/MSOP%28RM%29/RM_8.pdf; ComponentLink4Description: Product URL; ComponentLink4URL: http://www.analog.com/en/mems-sensors/digital-temperature-sensors/ad7814/products/product.html
footprint ADI-RM-8_N (SOP, 8-Leads, Body 3x3mm, Pitch 0.65mm, IPC Medium Density)
footprint ADI-RM-8_L (SOP, 8-Leads, Body 3x3mm, Pitch 0.65mm, IPC High Density)
footprint ADI-RM-8_M (SOP, 8-Leads, Body 3x3mm, Pitch 0.65mm, IPC Low Density)
pins: 1 NC "No Connect.", 2 DOUT (hiz) "Serial Data Output. Logic output. Data is clocked out of the temperature value register at this pin. Data is clocked out on the falling edge of SCLK.", 3 ~{CS} (in) "Chip Select Input. Logic input. The device is selected when this input is low. The SCLK input is disabled when this pin is high.", 4 SCLK (in) "Serial Clock Input. This is the clock input for the serial port.", 5 VDD (power) "Positive Supply Voltage.", 6 DIN (in) "Serial Data Input. Serial data to be loaded to the part’s control register is provided on this input. Data is clocked into the control register on the rising edge of SCLK.", 7 GND (power) "Analog and Digital Ground.", 8 NC "No Connect."

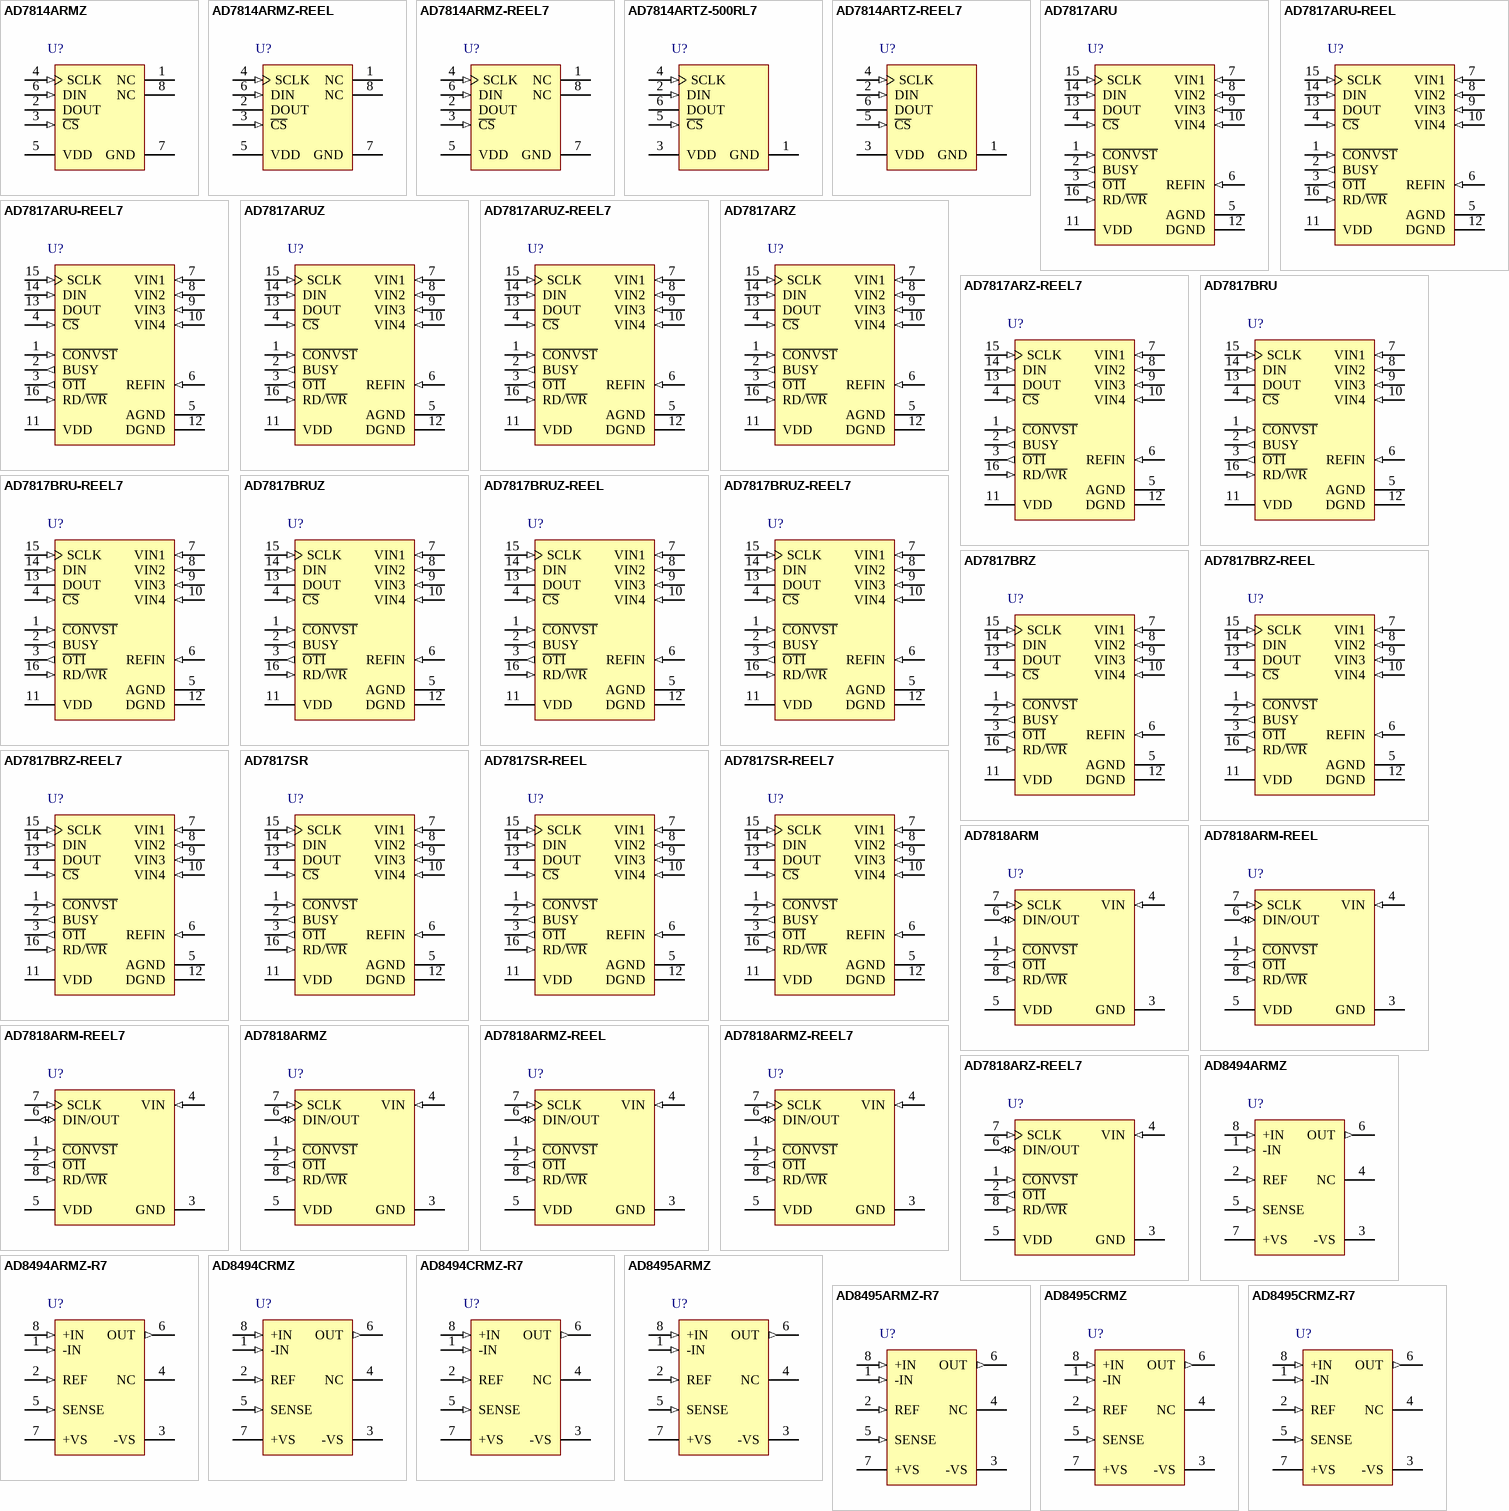
[diagram p2: symbols AD7814ARMZ to AD8495CRMZ-R7]